# EAGLE library part FH12-20S-0.5S (library HermitRetro)
0.5mm Pitch Connectors For FPC/FFC Source: Data sheet <http://www.hirose.co.jp/cataloge_hp/e58605370.pdf>
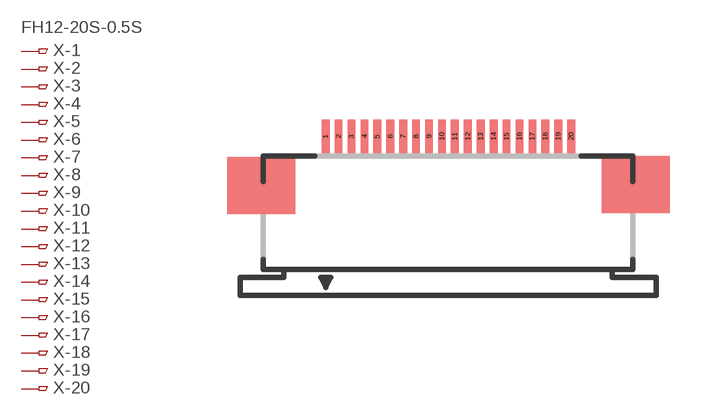
[diagram p11: symbol with the pads of FH12-20S-0.5SH; footprint FH12-20S-0.5SH]

Designator prefix X; gates -1=PINV -2=PIN -3=PIN -4=PIN -5=PIN -6=PIN -7=PIN -8=PIN -9=PIN -10=PIN -11=PIN -12=PIN -13=PIN -14=PIN -15=PIN -16=PIN -17=PIN -18=PIN -19=PIN -20=PIN

## FH12-20S-0.5SH (UNIT_PRICE: 0.42; VENDOR_ID: RS Components; VENDOR_SKU: 702-5472)  [FH12-20S-0.5SH]
1  -1:1  pas
2  -2:1  pas
3  -3:1  pas
4  -4:1  pas
5  -5:1  pas
6  -6:1  pas
7  -7:1  pas
8  -8:1  pas
9  -9:1  pas
10  -10:1  pas
11  -11:1  pas
12  -12:1  pas
13  -13:1  pas
14  -14:1  pas
15  -15:1  pas
16  -16:1  pas
17  -17:1  pas
18  -18:1  pas
19  -19:1  pas
20  -20:1  pas

## Footprint FH12-20S-0.5SH (pad centres in mm)
0.5mm Pitch Connectors For FPC/FFC Source: Data sheet <http://www.hirose.co.jp/cataloge_hp/e58605370.pdf>
smd 0.3 x 1.3: 1 -4.738,3.258; 2 -4.238,3.258; 3 -3.738,3.258; 4 -3.238,3.258; 5 -2.738,3.258; 6 -2.238,3.258; 7 -1.738,3.258; 8 -1.238,3.258; 9 -0.738,3.258; 10 -0.238,3.258; 11 0.262,3.258; 12 0.762,3.258; 13 1.262,3.258; 14 1.762,3.258; 15 2.262,3.258; 16 2.762,3.258; 17 3.262,3.258; 18 3.762,3.258; 19 4.262,3.258; 20 4.762,3.258